# EAGLE library part GRADCONN_BB02-PG (library DUMMY)
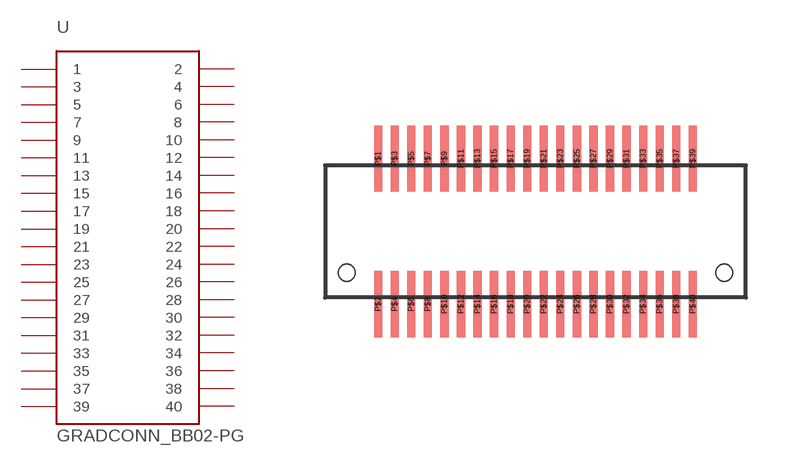
[diagram p4: symbol with the pads of GRADCONN_BB02-PG; footprint GRADCONN_BB02-PG]

Designator prefix -

## GRADCONN_BB02-PG  [GRADCONN_BB02-PG]
P$1  1
P$2  2
P$3  3
P$4  4
P$5  5
P$6  6
P$7  7
P$8  8
P$9  9
P$10  10
P$11  11
P$12  12
P$13  13
P$14  14
P$15  15
P$16  16
P$17  17
P$18  18
P$19  19
P$20  20
P$21  21
P$22  22
P$23  23
P$24  24
P$25  25
P$26  26
P$27  27
P$28  28
P$29  29
P$30  30
P$31  31
P$32  32
P$33  33
P$34  34
P$35  35
P$36  36
P$37  37
P$38  38
P$39  39
P$40  40

## Footprint GRADCONN_BB02-PG (pad centres in mm)
smd 0.25 x 2: P$1 -4.75,2.2; P$2 -4.75,-2.2; P$3 -4.25,2.2; P$4 -4.25,-2.2; P$5 -3.75,2.2; P$6 -3.75,-2.2; P$7 -3.25,2.2; P$8 -3.25,-2.2; P$9 -2.75,2.2; P$10 -2.75,-2.2; P$11 -2.25,2.2; P$12 -2.25,-2.2; P$13 -1.75,2.2; P$14 -1.75,-2.2; P$15 -1.25,2.2; P$16 -1.25,-2.2; P$17 -0.75,2.2; P$18 -0.75,-2.2; P$19 -0.25,2.2; P$20 -0.25,-2.2; P$21 0.25,2.2; P$22 0.25,-2.2; P$23 0.75,2.2; P$24 0.75,-2.2; P$25 1.25,2.2; P$26 1.25,-2.2; P$27 1.75,2.2; P$28 1.75,-2.2; P$29 2.25,2.2; P$30 2.25,-2.2; P$31 2.75,2.2; P$32 2.75,-2.2; P$33 3.25,2.2; P$34 3.25,-2.2; P$35 3.75,2.2; P$36 3.75,-2.2; P$37 4.25,2.2; P$38 4.25,-2.2; P$39 4.75,2.2; P$40 4.75,-2.2
hole 0.5 at -5.7,-1.25
hole 0.5 at 5.7,-1.25